# EAGLE library part ICM-42688-P (library IMU)
High Precision 6-Axis MEMS MotionTrackingTM Device Datasheet <https://invensense.tdk.com/wp-content/uploads/2020/04/ds-000347_icm-42688-p-datasheet.pdf>
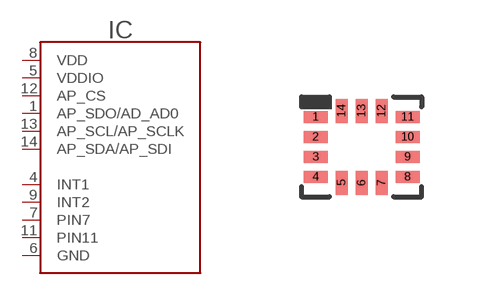
[diagram p4: symbol with the pads of LGA-14_2.5X3; footprint LGA-14_2.5X3]

Designator prefix IC

## ICM-42688-P (MANF: TDK; MANF#: ICM-42688-P)  [LGA-14_2.5X3]
1  AP_SDO/AD_AD0
4  INT1
5  VDDIO
6  GND
7  PIN7
8  VDD
9  INT2
11  PIN11
12  AP_CS
13  AP_SCL/AP_SCLK
14  AP_SDA/AP_SDI

## Footprint LGA-14_2.5X3 (pad centres in mm)
smd 0.6 x 0.3: 1 -1.15,0.75; 2 -1.15,0.25; 3 -1.15,-0.25; 4 -1.15,-0.75; 8 1.15,-0.75; 9 1.15,-0.25; 10 1.15,0.25; 11 1.15,0.75
smd 0.3 x 0.6: 5 -0.5,-0.9; 6 0,-0.9; 7 0.5,-0.9; 12 0.5,0.9; 13 0,0.9; 14 -0.5,0.9